# Altium schematic symbol library CP2102N-A02-GQFN28R.SchLib: 1 symbol
Pins are listed as number, name and electrical type; pins without a type are passive.

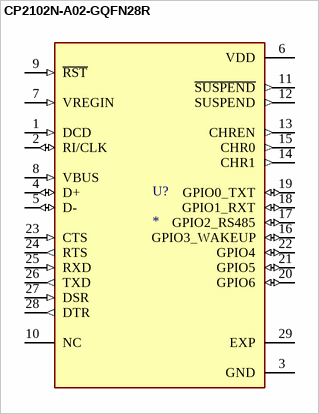
[diagram p0: symbol CP2102N-A02-GQFN28R]

## CP2102N-A02-GQFN28R
designator U?
USB Bridge, USB to UART USB 2.0 UART Interface 28-QFN (5x5); MF: Silicon Labs; MP: CP2102N-A02-GQFN28R; SnapEDA_Link: https://www.snapeda.com/parts/CP2102N-A02-GQFN28R/Silicon+Labs/view-part/?ref=snap; Package: None; Value: *; Check_prices: https://www.snapeda.com/parts/CP2102N-A02-GQFN28R/Silicon+Labs/view-part/?ref=eda
footprint IC_CP2102N-A02-GQFN28R
pins: 1 DCD (in), 2 RI/CLK (io), 3 GND (power), 4 D+ (io), 5 D- (io), 6 VDD (power), 7 VREGIN (in), 8 VBUS (in), 9 ~{RST} (in), 10 NC, 11 ~{SUSPEND} (out), 12 SUSPEND (out), 13 CHREN (out), 14 CHR1 (out), 15 CHR0 (out), 16 GPIO3_WAKEUP (io), 17 GPIO2_RS485 (io), 18 GPIO1_RXT (io), 19 GPIO0_TXT (io), 20 GPIO6 (io), 21 GPIO5 (io), 22 GPIO4 (io), 23 CTS (in), 24 RTS (out), 25 RXD (in), 26 TXD (out), 27 DSR (in), 28 DTR (out), 29 EXP (power)